# Altium footprint library 2019-10-21_13-40-53.PcbLib: 3 footprints
Each footprint in its own frame and in the unit in brackets; x right, y up, seen from the top. Pads: shape width x height; smd on the part's side, far side on the other; paste and mask are expansions set on the pad; w line width, h text height; cw(c..) or ccw(c..) is an arc to the next point about the centre after c.
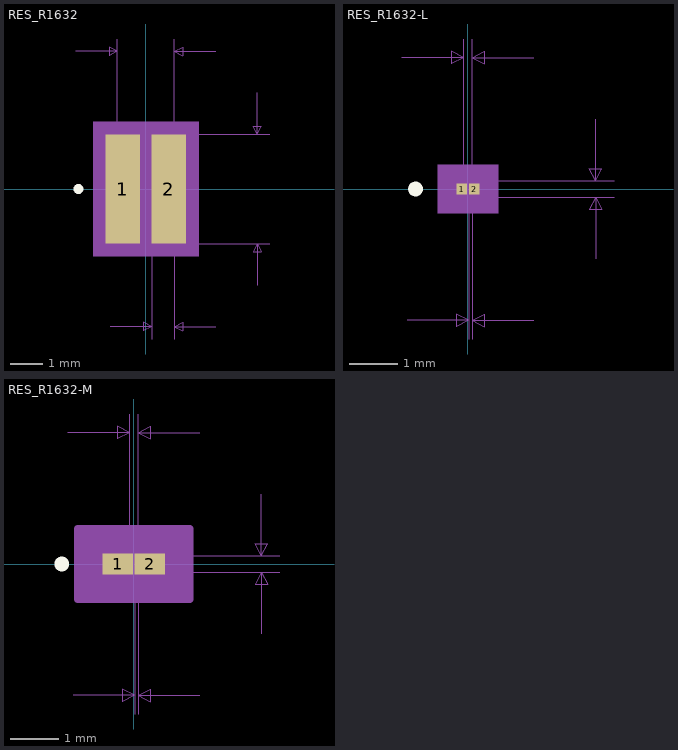
[diagram p0: the footprints below, top view; thin cyan lines are the x and y axes]

## RES_R1632 [mil]
pads (2):
  rect 41.56x132 smd paste+0 mask+0: 1(-27.72,0) 2(27.72,0)
Top Overlay:
  circle w6: c-81.5,0 r3
Mechanical 5:
  region: 63.5,-81 -63.5,-81 -63.5,81 63.5,81
Mechanical 7:
  lines w1: -84.5,166 -34.5,166 ; -43.06,-166 6.94,-166 ; -34.5,0 -34.5,181 ; 0,-66 149.5,-66 ; 0,66 149.5,66 ; 6.94,-181 6.94,0 ; 34.5,-181 34.5,0 34.5,181 ; 84.5,-166 34.5,-166 ; 84.5,166 34.5,166 ; 134.5,-116 134.5,-66 ; 134.5,116 134.5,66 ; -34.5,166 -44.5,171 -44.5,161 -34.5,166 ; 6.94,-166 -3.06,-161 -3.06,-171 6.94,-166 ; 34.5,-166 44.5,-161 44.5,-171 34.5,-166 ; 34.5,166 44.5,171 44.5,161 34.5,166 ; 134.5,-66 129.5,-76 139.5,-76 134.5,-66 ; 134.5,66 129.5,76 139.5,76 134.5,66
  text "Default Padstyle: RX41p56Y132D0T" at -400,-336 h50
  text "Alt 1 Padstyle: OX60Y90D30P" at -337.5,-396 h50
  text "Alt 2 Padstyle: OX90Y60D30P" at -337.5,-456 h50
  text "0.132in/3.353mm" at 154.5,-12.5 h25
  text "0.069in/1.753mm" at -93.75,186 h25
  text "0.028in/0.7mm" at -60.53,-211 h25
Mechanical 13:
  circle w0: c-22.72,0 r3
  lines w1: -34.5,-66 -34.5,66 ; -34.5,-66 -6.94,-66 -6.94,66 -34.5,66 ; -34.5,-66 34.5,-66 ; -34.5,-66 -34.5,66 ; -34.5,66 34.5,66 ; 34.5,-66 6.94,-66 6.94,66 34.5,66 ; 34.5,-66 34.5,66 ; 34.5,-66 34.5,66
Mechanical 15:
  region: 58.5,-76 -58.5,-76 -58.5,76 58.5,76
  lines w6: -58.5,-76 -58.5,76 58.5,76 58.5,-76 -58.5,-76
3D body: height 10, standoff 0, extent 0,0 10,10

## RES_R1632-L [mil]
pads (2):
  rect 8.76x9.19 smd paste+0 mask+0: 1(-5.07,0) 2(5.07,0)
Top Overlay:
  circle w6: c-42.44,0 r3
Mechanical 5:
  region: 24.44,-19.59 -24.44,-19.59 -24.44,19.59 24.44,19.59
Mechanical 7:
  lines w1: -53.44,106.59 -3.44,106.59 ; -49.31,-106.59 0.69,-106.59 ; -3.44,0 -3.44,121.59 ; 0,-6.59 118.44,-6.59 ; 0,6.59 118.44,6.59 ; 0.69,-121.59 0.69,0 ; 3.44,-121.59 3.44,0 3.44,121.59 ; 53.44,-106.59 3.44,-106.59 ; 53.44,106.59 3.44,106.59 ; 103.44,-56.59 103.44,-6.59 ; 103.44,56.59 103.44,6.59 ; -3.44,106.59 -13.44,111.59 -13.44,101.59 -3.44,106.59 ; 0.69,-106.59 -9.31,-101.59 -9.31,-111.59 0.69,-106.59 ; 3.44,-106.59 13.44,-101.59 13.44,-111.59 3.44,-106.59 ; 3.44,106.59 13.44,111.59 13.44,101.59 3.44,106.59 ; 103.44,-6.59 98.44,-16.59 108.44,-16.59 103.44,-6.59 ; 103.44,6.59 98.44,16.59 108.44,16.59 103.44,6.59
  text "Default Padstyle: RX8p76Y9p19D0T" at -400,-274.59 h50
  text "Alt 1 Padstyle: OX60Y90D30P" at -337.5,-334.59 h50
  text "Alt 2 Padstyle: OX90Y60D30P" at -337.5,-394.59 h50
  text "0.013in/0.335mm" at 123.44,-12.5 h25
  text "0.007in/0.175mm" at -93.75,126.59 h25
  text "0.003in/0.07mm" at -85.43,-151.59 h25
Mechanical 13:
  circle w0: c-0.07,0 r3
  lines w1: -3.44,-6.59 -3.44,6.59 ; -3.44,-6.59 -0.69,-6.59 -0.69,6.59 -3.44,6.59 ; -3.44,-6.59 3.44,-6.59 ; -3.44,-6.59 -3.44,6.59 ; -3.44,6.59 3.44,6.59 ; 3.44,-6.59 0.69,-6.59 0.69,6.59 3.44,6.59 ; 3.44,-6.59 3.44,6.59 ; 3.44,-6.59 3.44,6.59
Mechanical 15:
  region: 13.44,-8.59 -13.44,-8.59 -13.44,8.59 13.44,8.59
  lines w6: -13.44,-8.59 -13.44,8.59 13.44,8.59 13.44,-8.59 -13.44,-8.59
3D body: height 10, standoff 0, extent 0,0 10,10

## RES_R1632-M [mil]
pads (2):
  rect 24.76x17.19 smd paste+0 mask+0: 1(-13.07,0) 2(13.07,0)
Top Overlay:
  circle w6: c-58.44,0 r3
Mechanical 5:
  region: 40.44,-23.59 -40.44,-23.59 -40.44,23.59 40.44,23.59
Mechanical 7:
  lines w1: -53.44,106.59 -3.44,106.59 ; -49.31,-106.59 0.69,-106.59 ; -3.44,0 -3.44,121.59 ; 0,-6.59 118.44,-6.59 ; 0,6.59 118.44,6.59 ; 0.69,-121.59 0.69,0 ; 3.44,-121.59 3.44,0 3.44,121.59 ; 53.44,-106.59 3.44,-106.59 ; 53.44,106.59 3.44,106.59 ; 103.44,-56.59 103.44,-6.59 ; 103.44,56.59 103.44,6.59 ; -3.44,106.59 -13.44,111.59 -13.44,101.59 -3.44,106.59 ; 0.69,-106.59 -9.31,-101.59 -9.31,-111.59 0.69,-106.59 ; 3.44,-106.59 13.44,-101.59 13.44,-111.59 3.44,-106.59 ; 3.44,106.59 13.44,111.59 13.44,101.59 3.44,106.59 ; 103.44,-6.59 98.44,-16.59 108.44,-16.59 103.44,-6.59 ; 103.44,6.59 98.44,16.59 108.44,16.59 103.44,6.59
  text "Default Padstyle: RX24p76Y17p19D0T" at -425,-278.59 h50
  text "Alt 1 Padstyle: OX60Y90D30P" at -337.5,-338.59 h50
  text "Alt 2 Padstyle: OX90Y60D30P" at -337.5,-398.59 h50
  text "0.013in/0.335mm" at 123.44,-12.5 h25
  text "0.007in/0.175mm" at -93.75,126.59 h25
  text "0.003in/0.07mm" at -85.43,-151.59 h25
Mechanical 13:
  circle w0: c-8.07,0 r3
  lines w1: -3.44,-6.59 -3.44,6.59 ; -3.44,-6.59 -0.69,-6.59 -0.69,6.59 -3.44,6.59 ; -3.44,-6.59 3.44,-6.59 ; -3.44,-6.59 -3.44,6.59 ; -3.44,6.59 3.44,6.59 ; 3.44,-6.59 0.69,-6.59 0.69,6.59 3.44,6.59 ; 3.44,-6.59 3.44,6.59 ; 3.44,-6.59 3.44,6.59
Mechanical 15:
  region: 45.44,-28.59 -45.44,-28.59 -45.44,28.59 45.44,28.59
  lines w6: -45.44,-28.59 -45.44,28.59 45.44,28.59 45.44,-28.59 -45.44,-28.59
3D body: height 10, standoff 0, extent 0,0 10,10